# EAGLE library part LT3990-5 (library LM555-SHAYAN-NOORANI)
LT3990-5 DC-DC Regulator Datasheet <https://www.mouser.com/datasheet/2/609/3990fa-1270774.pdf>
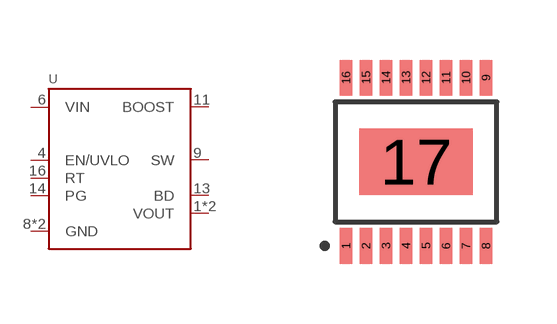
[diagram p27: symbol with the pads of MSE16; footprint MSE16]

Designator prefix U

## LT3990-5 (DKPN: LT3990EMSE-5#PBF-ND; MANUFACTURER: Analog Devices Inc.; MOPN: 584-LT3990EMSE-5#PBF; MPN: LT3990EMSE-5#PBF)  [MSE16]
1  VOUT  in
2  VOUT  in
4  EN/UVLO  in
6  VIN  pwr
8  GND  pwr
9  SW  out
11  BOOST  pas
13  BD  in
14  PG  pas
16  RT  pas
17  GND  pwr

## Footprint MSE16 (pad centres in mm)
MSOP-16 Datasheet <https://www.analog.com/media/en/package-pcb-resources/package/pkg_pdf/ltc-legacy-msop/05081669_A_MS16.pdf> Exposed Pad Datasheet <https://www.analog.com/media/en/package-pcb-resources/package/pkg_pdf/ltc-legacy-msop/05081667_f_mse16.pdf>
smd 0.305 x 0.889: 1 -1.75,-2.106; 2 -1.25,-2.106; 3 -0.75,-2.106; 4 -0.25,-2.106; 5 0.25,-2.106; 6 0.75,-2.106; 7 1.25,-2.106; 8 1.75,-2.106; 9 1.75,2.106; 10 1.25,2.106; 11 0.75,2.106; 12 0.25,2.106; 13 -0.25,2.106; 14 -0.75,2.106; 15 -1.25,2.106; 16 -1.75,2.106
smd 2.845 x 1.651: 17 0,0